# Altium schematic symbol library Bell.Schlib: 1 symbol
Pins are listed as number, name and electrical type; pins without a type are passive.

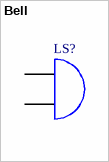
[diagram p0: symbol Bell]

## Bell
designator LS?
Electrical Bell
pins: 1 A, 2 B